# EAGLE library part INA213 (library Octanis1_EPS)
Voltage Output, High or Low Side Measurement, Bi-Directional Zer ø -Drift Series Current-Shunt Monitor
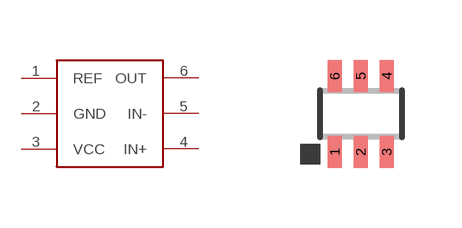
[diagram p6: symbol with the pads of SC70-6; footprint SC70-6]

Designator prefix -

## INA213  [SC70-6]
1  REF
2  GND
3  VCC
4  IN+
5  IN-
6  OUT

## Footprint SC70-6 (pad centres in mm)
6-Lead Thin Shrink Small Outline Transistor Package SC70 Source: http://www.analog.com/static/imported-files/data_sheets/ADA4853-1_4853-2_4853-3.pdf
smd 0.35 x 0.8: 1 -0.65,-0.95; 2 0,-0.95; 3 0.65,-0.95; 4 0.65,0.95; 5 0,0.95; 6 -0.65,0.95